# EAGLE library part HEADER-2X20 (library Header and Connector)
Header - 2x20
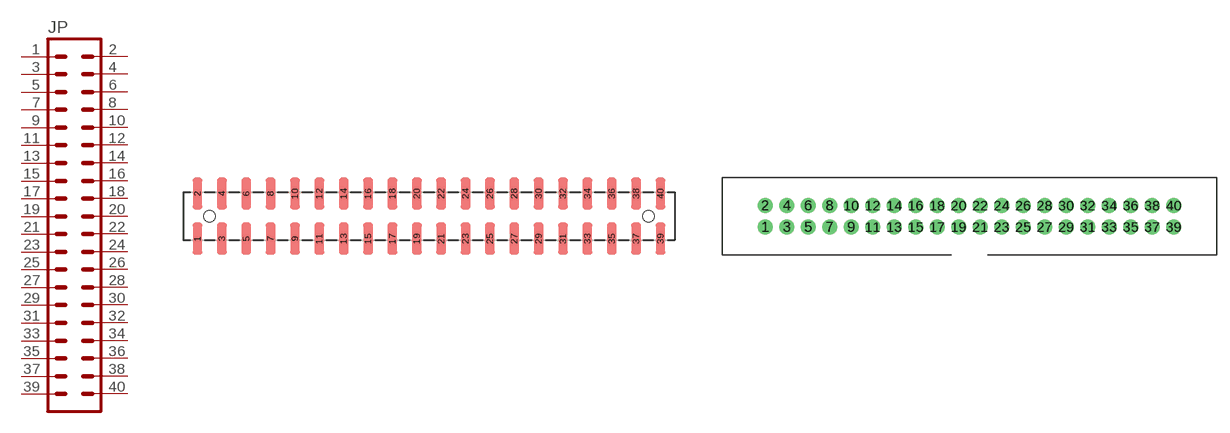
[diagram p35: symbol with the pads of HDR-F2X20-SMD; footprints HDR-F2X20-SMD, IDC-2X20]

Designator prefix JP

## HEADER-2X20_(F2X20-SMD) (CYTRON-PC: S-CN-PH-F220S-ES; DESC: S Female Header 2x20 Easy Studio; VALUE: 2x20 Ways)  [HDR-F2X20-SMD]
1  1  pas
2  2  pas
3  3  pas
4  4  pas
5  5  pas
6  6  pas
7  7  pas
8  8  pas
9  9  pas
10  10  pas
11  11  pas
12  12  pas
13  13  pas
14  14  pas
15  15  pas
16  16  pas
17  17  pas
18  18  pas
19  19  pas
20  20  pas
21  21  pas
22  22  pas
23  23  pas
24  24  pas
25  25  pas
26  26  pas
27  27  pas
28  28  pas
29  29  pas
30  30  pas
31  31  pas
32  32  pas
33  33  pas
34  34  pas
35  35  pas
36  36  pas
37  37  pas
38  38  pas
39  39  pas
40  40  pas

## HEADER-2X20_(IDC-2X20) (CYTRON-PC: CN-IDC-BOX-40; DESC: 40 Ways Straight Box Header; VALUE: 2x20 Ways)  [IDC-2X20]
Pads as for HDR-F2X20-SMD

## HEADER-2X20_(IDC-2X20-SMD) (DESC: S Straight Box Header 2x20 Ways; VALUE: 2x20 Ways)  [IDC-2X20-SMD]
Pads as for HDR-F2X20-SMD

## HEADER-2X20_(M2X20-SMD) (DESC: S Straight Male Header 2x20 Ways; VALUE: 2x20 Ways)  [S-HDR-M2X20]
Pads as for HDR-F2X20-SMD

## Footprint HDR-F2X20-SMD (pad centres in mm)
Female Header SMD - 2X20 Created by: Idris
smd 1.02 x 3.3: 1 -24.13,-2.35; 2 -24.13,2.35; 3 -21.59,-2.35; 4 -21.59,2.35; 5 -19.05,-2.35; 6 -19.05,2.35; 7 -16.51,-2.35; 8 -16.51,2.35; 9 -13.97,-2.35; 10 -13.97,2.35; 11 -11.43,-2.35; 12 -11.43,2.35; 13 -8.89,-2.35; 14 -8.89,2.35; 15 -6.35,-2.35; 16 -6.35,2.35; 17 -3.81,-2.35; 18 -3.81,2.35; 19 -1.27,-2.35; 20 -1.27,2.35; 21 1.27,-2.35; 22 1.27,2.35; 23 3.81,-2.35; 24 3.81,2.35; 25 6.35,-2.35; 26 6.35,2.35; 27 8.89,-2.35; 28 8.89,2.35; 29 11.43,-2.35; 30 11.43,2.35; 31 13.97,-2.35; 32 13.97,2.35; 33 16.51,-2.35; 34 16.51,2.35; 35 19.05,-2.35; 36 19.05,2.35; 37 21.59,-2.35; 38 21.59,2.35; 39 24.13,-2.35; 40 24.13,2.35
hole 1.2 at -22.86,0
hole 1.2 at 22.86,0

## Footprint IDC-2X20 (pad centres in mm)
IDC Box Header (Straight) - 2X20 Created by: Wai Weng
drill 1 pad 1.778: 1 -24.13,-1.27; 2 -24.13,1.27; 3 -21.59,-1.27; 4 -21.59,1.27; 5 -19.05,-1.27; 6 -19.05,1.27; 7 -16.51,-1.27; 8 -16.51,1.27; 9 -13.97,-1.27; 10 -13.97,1.27; 11 -11.43,-1.27; 12 -11.43,1.27; 13 -8.89,-1.27; 14 -8.89,1.27; 15 -6.35,-1.27; 16 -6.35,1.27; 17 -3.81,-1.27; 18 -3.81,1.27; 19 -1.27,-1.27; 20 -1.27,1.27; 21 1.27,-1.27; 22 1.27,1.27; 23 3.81,-1.27; 24 3.81,1.27; 25 6.35,-1.27; 26 6.35,1.27; 27 8.89,-1.27; 28 8.89,1.27; 29 11.43,-1.27; 30 11.43,1.27; 31 13.97,-1.27; 32 13.97,1.27; 33 16.51,-1.27; 34 16.51,1.27; 35 19.05,-1.27; 36 19.05,1.27; 37 21.59,-1.27; 38 21.59,1.27; 39 24.13,-1.27; 40 24.13,1.27

## Footprint IDC-2X20-SMD (pad centres in mm)
SMD IDC Box Header (Straight) - 2X20 Created by: Wai Weng
smd 1.02 x 4.3: 1 -24.13,-3.1; 2 -24.13,3.1; 3 -21.59,-3.1; 4 -21.59,3.1; 5 -19.05,-3.1; 6 -19.05,3.1; 7 -16.51,-3.1; 8 -16.51,3.1; 9 -13.97,-3.1; 10 -13.97,3.1; 11 -11.43,-3.1; 12 -11.43,3.1; 13 -8.89,-3.1; 14 -8.89,3.1; 15 -6.35,-3.1; 16 -6.35,3.1; 17 -3.81,-3.1; 18 -3.81,3.1; 19 -1.27,-3.1; 20 -1.27,3.1; 21 1.27,-3.1; 22 1.27,3.1; 23 3.81,-3.1; 24 3.81,3.1; 25 6.35,-3.1; 26 6.35,3.1; 27 8.89,-3.1; 28 8.89,3.1; 29 11.43,-3.1; 30 11.43,3.1; 31 13.97,-3.1; 32 13.97,3.1; 33 16.51,-3.1; 34 16.51,3.1; 35 19.05,-3.1; 36 19.05,3.1; 37 21.59,-3.1; 38 21.59,3.1; 39 24.13,-3.1; 40 24.13,3.1

## Footprint S-HDR-M2X20 (pad centres in mm)
SMD Male Header - 2X20
smd 1 x 3: 1 -24.13,-2.67; 2 -24.13,2.67; 3 -21.59,-2.67; 4 -21.59,2.67; 5 -19.05,-2.67; 6 -19.05,2.67; 7 -16.51,-2.67; 8 -16.51,2.67; 9 -13.97,-2.67; 10 -13.97,2.67; 11 -11.43,-2.67; 12 -11.43,2.67; 13 -8.89,-2.67; 14 -8.89,2.67; 15 -6.35,-2.67; 16 -6.35,2.67; 17 -3.81,-2.67; 18 -3.81,2.67; 19 -1.27,-2.67; 20 -1.27,2.67; 21 1.27,-2.67; 22 1.27,2.67; 23 3.81,-2.67; 24 3.81,2.67; 25 6.35,-2.67; 26 6.35,2.67; 27 8.89,-2.67; 28 8.89,2.67; 29 11.43,-2.67; 30 11.43,2.67; 31 13.97,-2.67; 32 13.97,2.67; 33 16.51,-2.67; 34 16.51,2.67; 35 19.05,-2.67; 36 19.05,2.67; 37 21.59,-2.67; 38 21.59,2.67; 39 24.13,-2.67; 40 24.13,2.67